# Altium schematic symbol library ESP32-WROOM-32_8MB_.SchLib: 1 symbol
Pins are listed as number, name and electrical type; pins without a type are passive.

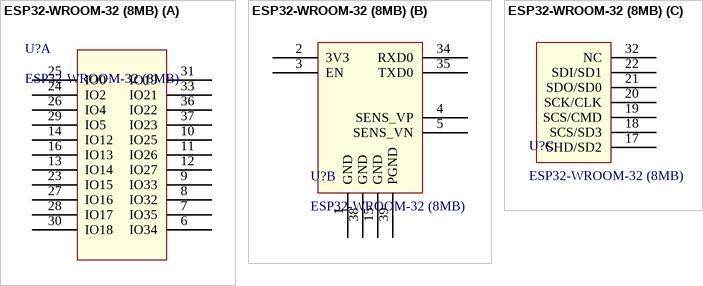
[diagram p0: symbol ESP32-WROOM-32 (8MB)]

## ESP32-WROOM-32 (8MB)
designator U?
No Description Available; Mfr_Name: Espressif Systems; Manufacturer Part Number: ESP32-WROOM-32D-N4; Copyright: Copyright (C) 2023 Ultra Librarian. All rights reserved.; Manufacturer_Part_Number: ESP32-WROOM-32 (8MB); RefDes: RefDes; Type: DEV
footprint IC38_ESP32-WROOM-32 (8MB)_EXP
part A pins: 6 IO34, 7 IO35, 8 IO32, 9 IO33, 10 IO25, 11 IO26, 12 IO27, 13 IO14, 14 IO12, 16 IO13, 23 IO15, 24 IO2, 25 IO0, 26 IO4, 27 IO16, 28 IO17, 29 IO5, 30 IO18, 31 IO19, 33 IO21, 36 IO22, 37 IO23
part B pins: 1 GND, 2 3V3, 3 EN, 4 SENS_VP, 5 SENS_VN, 15 GND, 34 RXD0, 35 TXD0, 38 GND, 39 PGND
part C pins: 17 SHD/SD2, 18 SCS/SD3, 19 SCS/CMD, 20 SCK/CLK, 21 SDO/SD0, 22 SDI/SD1, 32 NC